# EAGLE library part BMP (library M0)
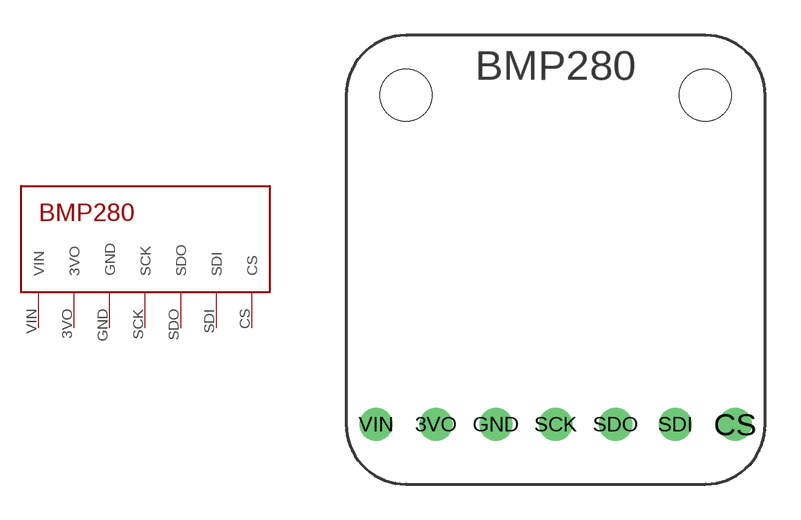
[diagram p1: symbol with the pads of BMP; footprint BMP]

Designator prefix -

## BMP  [BMP]
3VO  3VO
CS  CS
GND  GND
SCK  SCK
SDI  SDI
SDO  SDO
VIN  VIN

## Footprint BMP (pad centres in mm)
drill 0.9: 3VO 3.81,2.54; CS 16.51,2.54; GND 6.35,2.54; SCK 8.89,2.54; SDI 13.97,2.54; SDO 11.43,2.54; VIN 1.27,2.54
hole 2.2 at 2.54,16.51
hole 2.2 at 15.24,16.51